# Altium schematic symbol library RT9400.SchLib: 1 symbol
Pins are listed as number, name and electrical type; pins without a type are passive.

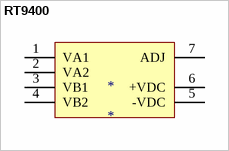
[diagram p0: symbol RT9400]

## RT9400
designator *
pins: 1 VA1 (power), 2 VA2 (power), 3 VB1 (power), 4 VB2 (power), 5 -VDC (power), 6 +VDC (power), 7 ADJ (power)